# Altium schematic symbol library rersistor.SchLib: 1 symbol
Pins are listed as number, name and electrical type; pins without a type are passive.

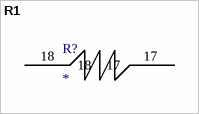
[diagram p0: symbol R1]

## R1
designator R?
pins: 17, 18